# Altium schematic symbol library SMT32F407VGT6_LIB.SchLib: 3 symbols
Pins are listed as number, name and electrical type; pins without a type are passive.

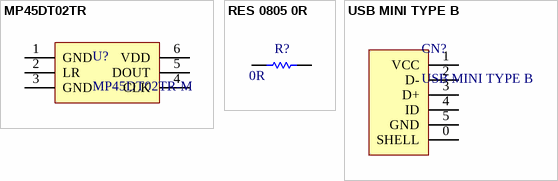
[diagram p0: symbols MP45DT02TR to USB MINI TYPE B]

## MP45DT02TR
designator U?, comment MP45DT02TR-M
footprint MP45DT02TR
pins: 1 GND, 2 LR, 3 GND, 4 CLK, 5 DOUT, 6 VDD

## RES 0805 0R
designator R?  value 0R  (hidden comment: *)
Footprint: RES_0805; Mounting Type: SMD
footprint RES_0805
pins: 1, 2

## USB MINI TYPE B
designator CN?
Component Type: Connector
footprint USB_MINI_TYPE_B
pins: 0 SHELL, 1 VCC, 2 D-, 3 D+, 4 ID, 5 GND